# EAGLE library part 6273XX20621_62732020621 (library con-wurth-board-header)
WR-BHD 1.27 mm Male SMT Box Header KIND PROPERTIES: Pitch 1.27 mm Gender:Male MATERIAL PROPERTIES: Insulator Material Nylon 9T Insulator Flammability Rating UL94 V-0 Insulator Color Black Contact Material Brass Contact Plating Gold over Nickel GENERAL INFORMATION: Operating Temperature -40 up to +105 °C Working Voltage 50 V (AC) Withstanding Voltage 500 V (AC) Contact Resistance 20 mΩ RISO 1000 MΩ CERTIFICATION: UL Approval E323964 <https://www.we-online.com/catalog/media/o375406v209%20Family_WR-BHD_6270xx20621.jpg> Details see: https://www.we-online.com/catalog/en/WR_BHD_1_27_MM_MALE_SMT_BOX_HEADER Created by Ella Wu 2021-08-24 2021 (C) Würth Elektronik
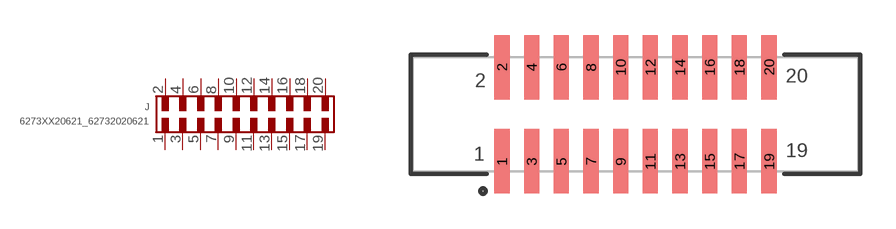
[diagram p60: symbol with the pads of 62732020621; footprint 62732020621]

Designator prefix J

## 6273XX20621_62732020621 (CONTACT-RESISTANCE: 20mOhm; DATASHEET-URL: https://www.we-online.com/redexpert/spec/62732020621?ae; GENDER: Male; IR: 1A; LENGTH: 19.05mm; MOUNT: SMT; PART-NUMBER: 62732020621; PINS: 20; PITCH: 1.27mm; TYPE: Straight; VALUE: 62732020621; WORKING-VOLTAGE: 50V(AC))  [62732020621]
1  1  pas
2  2  pas
3  3  pas
4  4  pas
5  5  pas
6  6  pas
7  7  pas
8  8  pas
9  9  pas
10  10  pas
11  11  pas
12  12  pas
13  13  pas
14  14  pas
15  15  pas
16  16  pas
17  17  pas
18  18  pas
19  19  pas
20  20  pas

## Footprint 62732020621 (pad centres in mm)
WR-BHD 1.27 mm Male SMT Box Header Pitch: 1.27mm, 20pins, SMT
smd 0.65 x 2.76: 1 -5.715,-2.02; 2 -5.715,2.02; 3 -4.445,-2.02; 4 -4.445,2.02; 5 -3.175,-2.02; 6 -3.175,2.02; 7 -1.905,-2.02; 8 -1.905,2.02; 9 -0.635,-2.02; 10 -0.635,2.02; 11 0.635,-2.02; 12 0.635,2.02; 13 1.905,-2.02; 14 1.905,2.02; 15 3.175,-2.02; 16 3.175,2.02; 17 4.445,-2.02; 18 4.445,2.02; 19 5.715,-2.02; 20 5.715,2.02